# Altium schematic symbol library MSS1278H-334KED.SchLib: 1 symbol
Pins are listed as number, name and electrical type; pins without a type are passive.

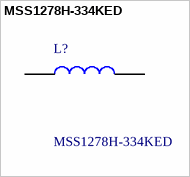
[diagram p0: symbol MSS1278H-334KED]

## MSS1278H-334KED
designator L?
Fixed Inductors 330uH Shld 1.3A 10% DCR=350mOhmsAEC-Q200; Manufacturer_Name: COILCRAFT; Geometry.Height: 8.05mm; Manufacturer_Part_Number: MSS1278H-334KED; Mouser Part Number: 994-MSS1278H-334KED; Mouser Price/Stock: https://www.mouser.co.uk/ProductDetail/Coilcraft/MSS1278H-334KED?qs=KUoIvG%2F9IlYsPneJA3QIdw%3D%3D; Arrow Part Number: *; Arrow Price/Stock: *; Datasheet Link: https://4donline.ihs.com/images/VipMasterIC/IC/COLC/COLC-S-A0010155479/COLC-S-A0010155479-1.pdf?hkey=EF798316E3902B6ED9A73243A3159BB0
footprint MSS1278H334KED
pins: 1, 2